# Altium footprint library IC.PcbLib: 3 footprints
Each footprint in its own frame and in the unit in brackets; x right, y up, seen from the top. Pads: shape width x height; smd on the part's side, far side on the other; paste and mask are expansions set on the pad; w line width, h text height; cw(c..) or ccw(c..) is an arc to the next point about the centre after c.
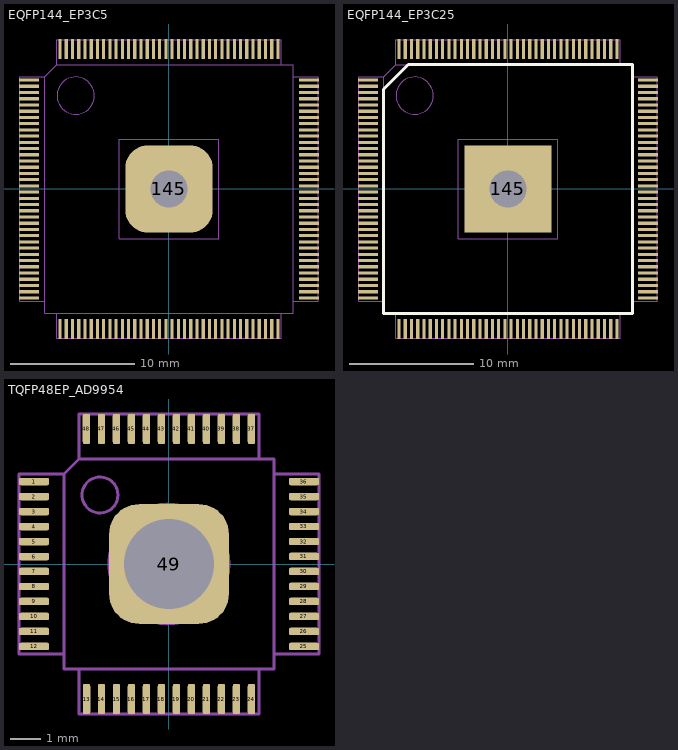
[diagram p0: the footprints below, top view; thin cyan lines are the x and y axes]

## EQFP144_EP3C5 [mm]
pads (145):
  rect 1.6x0.25 smd: 1(-11.25,8.75) 2(-11.25,8.25) 3(-11.25,7.75) 4(-11.25,7.25) 5(-11.25,6.75) 6(-11.25,6.25) 7(-11.25,5.75) 8(-11.25,5.25) 9(-11.25,4.75) 10(-11.25,4.25) 11(-11.25,3.75) 12(-11.25,3.25) 13(-11.25,2.75) 14(-11.25,2.25) 15(-11.25,1.75) 16(-11.25,1.25) 17(-11.25,0.75) 18(-11.25,0.25) 19(-11.25,-0.25) 20(-11.25,-0.75) 21(-11.25,-1.25) 22(-11.25,-1.75) 23(-11.25,-2.25) 24(-11.25,-2.75) 25(-11.25,-3.25) 26(-11.25,-3.75) 27(-11.25,-4.25) 28(-11.25,-4.75) 29(-11.25,-5.25) 30(-11.25,-5.75) 31(-11.25,-6.25) 32(-11.25,-6.75) 33(-11.25,-7.25) 34(-11.25,-7.75) 35(-11.25,-8.25) 36(-11.25,-8.75) 73(11.25,-8.75) 74(11.25,-8.25) 75(11.25,-7.75) 76(11.25,-7.25) 77(11.25,-6.75) 78(11.25,-6.25) 79(11.25,-5.75) 80(11.25,-5.25) 81(11.25,-4.75) 82(11.25,-4.25) 83(11.25,-3.75) 84(11.25,-3.25) 85(11.25,-2.75) 86(11.25,-2.25) 87(11.25,-1.75) 88(11.25,-1.25) 89(11.25,-0.75) 90(11.25,-0.25) 91(11.25,0.25) 92(11.25,0.75) 93(11.25,1.25) 94(11.25,1.75) 95(11.25,2.25) 96(11.25,2.75) 97(11.25,3.25) 98(11.25,3.75) 99(11.25,4.25) 100(11.25,4.75) 101(11.25,5.25) 102(11.25,5.75) 103(11.25,6.25) 104(11.25,6.75) 105(11.25,7.25) 106(11.25,7.75) 107(11.25,8.25) 108(11.25,8.75)
  rect 0.25x1.6 smd: 37(-8.75,-11.25) 38(-8.25,-11.25) 39(-7.75,-11.25) 40(-7.25,-11.25) 41(-6.75,-11.25) 42(-6.25,-11.25) 43(-5.75,-11.25) 44(-5.25,-11.25) 45(-4.75,-11.25) 46(-4.25,-11.25) 47(-3.75,-11.25) 48(-3.25,-11.25) 49(-2.75,-11.25) 50(-2.25,-11.25) 51(-1.75,-11.25) 52(-1.25,-11.25) 53(-0.75,-11.25) 54(-0.25,-11.25) 55(0.25,-11.25) 56(0.75,-11.25) 57(1.25,-11.25) 58(1.75,-11.25) 59(2.25,-11.25) 60(2.75,-11.25) 61(3.25,-11.25) 62(3.75,-11.25) 63(4.25,-11.25) 64(4.75,-11.25) 65(5.25,-11.25) 66(5.75,-11.25) 67(6.25,-11.25) 68(6.75,-11.25) 69(7.25,-11.25) 70(7.75,-11.25) 71(8.25,-11.25) 72(8.75,-11.25) 109(8.75,11.25) 110(8.25,11.25) 111(7.75,11.25) 112(7.25,11.25) 113(6.75,11.25) 114(6.25,11.25) 115(5.75,11.25) 116(5.25,11.25) 117(4.75,11.25) 118(4.25,11.25) 119(3.75,11.25) 120(3.25,11.25) 121(2.75,11.25) 122(2.25,11.25) 123(1.75,11.25) 124(1.25,11.25) 125(0.75,11.25) 126(0.25,11.25) 127(-0.25,11.25) 128(-0.75,11.25) 129(-1.25,11.25) 130(-1.75,11.25) 131(-2.25,11.25) 132(-2.75,11.25) 133(-3.25,11.25) 134(-3.75,11.25) 135(-4.25,11.25) 136(-4.75,11.25) 137(-5.25,11.25) 138(-5.75,11.25) 139(-6.25,11.25) 140(-6.75,11.25) 141(-7.25,11.25) 142(-7.75,11.25) 143(-8.25,11.25) 144(-8.75,11.25)
  rrect50% 7x7 hole 3: 145(0,0)
Mechanical 1:
  circle w0.1: c-7.5,7.5 r1.5
  lines w0.1: -10,-9 -12,-9 -12,9 -10,9 ; -9,-10 -9,-12 9,-12 9,-10 ; 9,10 9,12 -9,12 -9,10 ; 10,-9 12,-9 12,9 10,9 ; -10,9 -9,10 ; -10,9 -10,-10 10,-10 10,10 -9,10
Mechanical 4:
  circle w0.1: c0,0 r2.236
  lines w0.1: -4,-4 4,-4 4,4 -4,4 -4,-4
Mechanical 13:
  text ".Designator" at -3.556,6.604 h1
3D body: height 1.7, standoff 1.6, extent -8.992,7.002 -7,8.998
3D body: height 1.6, standoff 0, extent -10,-10 10,10

## EQFP144_EP3C25 [mm]
pads (145):
  rect 1.6x0.25 smd: 1(-11.25,8.75) 2(-11.25,8.25) 3(-11.25,7.75) 4(-11.25,7.25) 5(-11.25,6.75) 6(-11.25,6.25) 7(-11.25,5.75) 8(-11.25,5.25) 9(-11.25,4.75) 10(-11.25,4.25) 11(-11.25,3.75) 12(-11.25,3.25) 13(-11.25,2.75) 14(-11.25,2.25) 15(-11.25,1.75) 16(-11.25,1.25) 17(-11.25,0.75) 18(-11.25,0.25) 19(-11.25,-0.25) 20(-11.25,-0.75) 21(-11.25,-1.25) 22(-11.25,-1.75) 23(-11.25,-2.25) 24(-11.25,-2.75) 25(-11.25,-3.25) 26(-11.25,-3.75) 27(-11.25,-4.25) 28(-11.25,-4.75) 29(-11.25,-5.25) 30(-11.25,-5.75) 31(-11.25,-6.25) 32(-11.25,-6.75) 33(-11.25,-7.25) 34(-11.25,-7.75) 35(-11.25,-8.25) 36(-11.25,-8.75) 73(11.25,-8.75) 74(11.25,-8.25) 75(11.25,-7.75) 76(11.25,-7.25) 77(11.25,-6.75) 78(11.25,-6.25) 79(11.25,-5.75) 80(11.25,-5.25) 81(11.25,-4.75) 82(11.25,-4.25) 83(11.25,-3.75) 84(11.25,-3.25) 85(11.25,-2.75) 86(11.25,-2.25) 87(11.25,-1.75) 88(11.25,-1.25) 89(11.25,-0.75) 90(11.25,-0.25) 91(11.25,0.25) 92(11.25,0.75) 93(11.25,1.25) 94(11.25,1.75) 95(11.25,2.25) 96(11.25,2.75) 97(11.25,3.25) 98(11.25,3.75) 99(11.25,4.25) 100(11.25,4.75) 101(11.25,5.25) 102(11.25,5.75) 103(11.25,6.25) 104(11.25,6.75) 105(11.25,7.25) 106(11.25,7.75) 107(11.25,8.25) 108(11.25,8.75)
  rect 0.25x1.6 smd: 37(-8.75,-11.25) 38(-8.25,-11.25) 39(-7.75,-11.25) 40(-7.25,-11.25) 41(-6.75,-11.25) 42(-6.25,-11.25) 43(-5.75,-11.25) 44(-5.25,-11.25) 45(-4.75,-11.25) 46(-4.25,-11.25) 47(-3.75,-11.25) 48(-3.25,-11.25) 49(-2.75,-11.25) 50(-2.25,-11.25) 51(-1.75,-11.25) 52(-1.25,-11.25) 53(-0.75,-11.25) 54(-0.25,-11.25) 55(0.25,-11.25) 56(0.75,-11.25) 57(1.25,-11.25) 58(1.75,-11.25) 59(2.25,-11.25) 60(2.75,-11.25) 61(3.25,-11.25) 62(3.75,-11.25) 63(4.25,-11.25) 64(4.75,-11.25) 65(5.25,-11.25) 66(5.75,-11.25) 67(6.25,-11.25) 68(6.75,-11.25) 69(7.25,-11.25) 70(7.75,-11.25) 71(8.25,-11.25) 72(8.75,-11.25) 109(8.75,11.25) 110(8.25,11.25) 111(7.75,11.25) 112(7.25,11.25) 113(6.75,11.25) 114(6.25,11.25) 115(5.75,11.25) 116(5.25,11.25) 117(4.75,11.25) 118(4.25,11.25) 119(3.75,11.25) 120(3.25,11.25) 121(2.75,11.25) 122(2.25,11.25) 123(1.75,11.25) 124(1.25,11.25) 125(0.75,11.25) 126(0.25,11.25) 127(-0.25,11.25) 128(-0.75,11.25) 129(-1.25,11.25) 130(-1.75,11.25) 131(-2.25,11.25) 132(-2.75,11.25) 133(-3.25,11.25) 134(-3.75,11.25) 135(-4.25,11.25) 136(-4.75,11.25) 137(-5.25,11.25) 138(-5.75,11.25) 139(-6.25,11.25) 140(-6.75,11.25) 141(-7.25,11.25) 142(-7.75,11.25) 143(-8.25,11.25) 144(-8.75,11.25)
  rect 7x7 / inner rect 7x7 / far side round 4 hole 3: 145(0,0)
Top Overlay:
  lines w0.254: -10,-10 -10,8 -8,10 10,10 10,-10 -10,-10
Mechanical 1:
  circle w0.1: c-7.5,7.5 r1.5
  lines w0.1: -10,-9 -12,-9 -12,9 -10,9 ; -9,-10 -9,-12 9,-12 9,-10 ; 9,10 9,12 -9,12 -9,10 ; 10,-9 12,-9 12,9 10,9 ; -10,9 -10,-10 10,-10 10,10 -9,10 ; -10,9 -9,10
Mechanical 4:
  circle w0.1: c0,0 r2.236
  lines w0.1: -4,-4 -4,4 4,4 4,-4 -4,-4
Mechanical 13:
  text ".Designator" at -3.556,6.604 h1
3D body: height 1.6, standoff 0, extent -10,-10 10,10
3D body: height 1.7, standoff 1.6, extent -8.992,7.002 -7,8.998

## TQFP48EP_AD9954 [mm]
height 1.2
pads (49):
  rrect50% 1x0.25 smd: 1(-4.5,2.75) 2(-4.5,2.25) 3(-4.5,1.75) 4(-4.5,1.25) 5(-4.5,0.75) 6(-4.5,0.25) 7(-4.5,-0.25) 8(-4.5,-0.75) 9(-4.5,-1.25) 10(-4.5,-1.75) 11(-4.5,-2.25) 12(-4.5,-2.75) 25(4.5,-2.75) 26(4.5,-2.25) 27(4.5,-1.75) 28(4.5,-1.25) 29(4.5,-0.75) 30(4.5,-0.25) 31(4.5,0.25) 32(4.5,0.75) 33(4.5,1.25) 34(4.5,1.75) 35(4.5,2.25) 36(4.5,2.75)
  rrect50% 0.25x1 smd: 13(-2.75,-4.5) 14(-2.25,-4.5) 15(-1.75,-4.5) 16(-1.25,-4.5) 17(-0.75,-4.5) 18(-0.25,-4.5) 19(0.25,-4.5) 20(0.75,-4.5) 21(1.25,-4.5) 22(1.75,-4.5) 23(2.25,-4.5) 24(2.75,-4.5) 37(2.75,4.5) 38(2.25,4.5) 39(1.75,4.5) 40(1.25,4.5) 41(0.75,4.5) 42(0.25,4.5) 43(-0.25,4.5) 44(-0.75,4.5) 45(-1.25,4.5) 46(-1.75,4.5) 47(-2.25,4.5) 48(-2.75,4.5)
  rrect50% 4x4 hole 3: 49(0,0)
Mechanical 1:
  circle w0.1: c-2.3,2.3 r0.6
  lines w0.1: -3.5,-3 -5,-3 -5,3 -3.5,3 ; -3,-3.5 -3,-5 3,-5 3,-3.5 2.75,-3.5 ; 3,3.5 3,5 -3,5 -3,3.5 ; 3.5,-3 5,-3 5,3 3.5,3 ; -3.5,3 -3.5,-3.5 3.5,-3.5 3.5,3.5 -3,3.5 ; -3.5,3 -3,3.5
Mechanical 4:
  circle w0.1: c0,0 r2
Mechanical 13:
  text ".Designator" at -3,-1 h1
3D body: height 1.2, standoff 0, extent -3.5,-3.5 3.5,3.5
3D body: height 1.3, standoff 1.2, extent -3,2 -2.004,2.998